# Altium footprint library LFSPXO019987.PcbLib: 1 footprints
Each footprint in its own frame and in the unit in brackets; x right, y up, seen from the top. Pads: shape width x height; smd on the part's side, far side on the other; paste and mask are expansions set on the pad; w line width, h text height; cw(c..) or ccw(c..) is an arc to the next point about the centre after c.
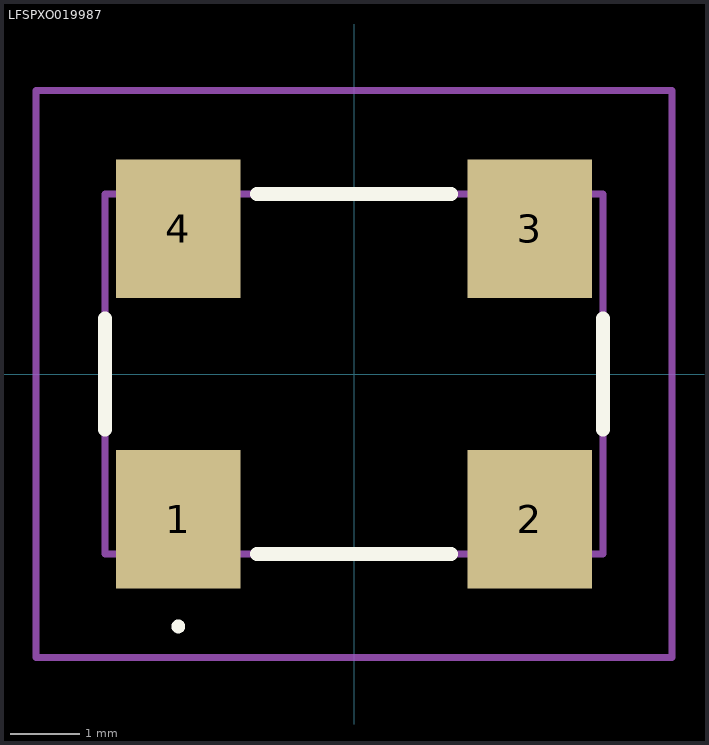
[diagram p0: the footprint, top view; thin cyan lines are the x and y axes]

## LFSPXO019987 [mm]
pads (4):
  rect 1.8x2 smd: 1(-2.54,-2.1) 2(2.54,-2.1) 3(2.54,2.1) 4(-2.54,2.1)
Top Overlay:
  lines w0.1: -2.54,-3.7 cw(c-2.54,-3.65) -2.54,-3.6 cw(c-2.54,-3.65) -2.54,-3.7
  lines w0.2: -3.6,-0.8 -3.6,0.8 ; -1.4,-2.6 1.4,-2.6 ; -1.4,2.6 1.4,2.6 ; 3.6,-0.8 3.6,0.8
Mechanical 13:
  lines w0.1: -3.6,-2.6 3.6,-2.6 3.6,2.6 -3.6,2.6 -3.6,-2.6
Mechanical 15:
  lines w0.1: -4.6,-4.1 4.6,-4.1 4.6,4.1 -4.6,4.1 -4.6,-4.1
3D body "LFSPXO019987.stp": height 1.5, standoff 0, extent -3.6,-2.92 3.6,2.92